# Altium footprint library ATK-MD0130_V2.0.PcbLib: 7 footprints
Each footprint in its own frame and in the unit in brackets; x right, y up, seen from the top. Pads: shape width x height; smd on the part's side, far side on the other; paste and mask are expansions set on the pad; w line width, h text height; cw(c..) or ccw(c..) is an arc to the next point about the centre after c.
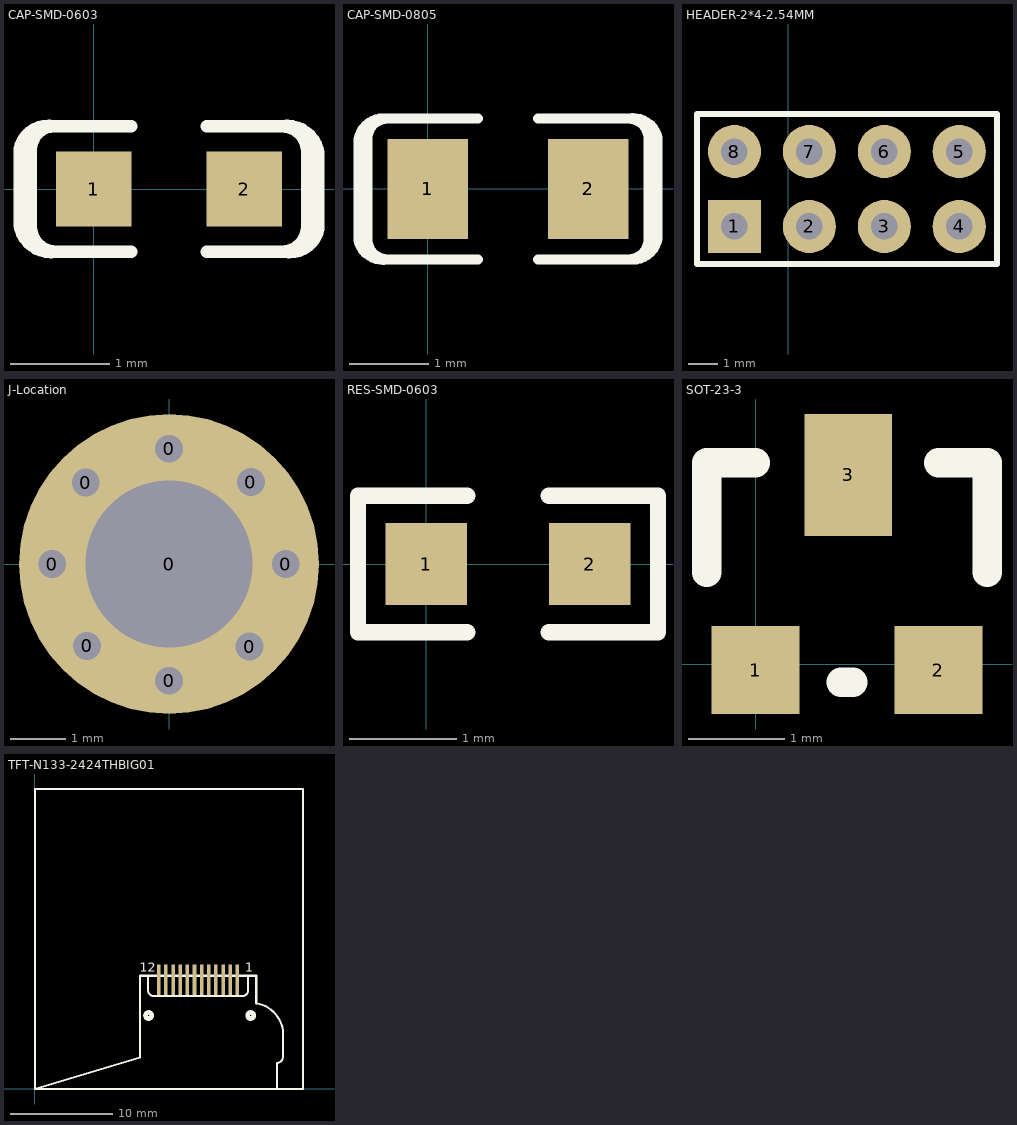
[diagram p0: the footprints below, top view; thin cyan lines are the x and y axes]

## CAP-SMD-0603 [mil]
pads (2):
  rect 30x30 smd: 1(0,0) 2(60,0)
Top Overlay:
  lines w5: -25,-15 ccw(c-15,-15) -15,-25 ; -25,-14.25 -25,15.75 cw(c-15.75,15.75) -15.75,25 ; 15,-25 -15,-25 ; 15,25 -15.75,25 ; 45,-25 75,-25 ccw(c75,-15) 85,-15 85,15 ccw(c75,15) 75,25 ; 45,25 75,25 ; 75.75,-25 ccw(c78.01,-13.48) 89.53,-15.75 89.53,14.25 ccw(c76.89,12.36) 75,25 ; -15.75,25 ccw(c-18.01,13.48) -29.53,15.75 -29.53,-14.25 ccw(c-16.89,-12.36) -15,-25

## CAP-SMD-0805 [mil]
pads (2):
  rect 40x50 smd: 1(0,0) 2(80,0)
Top Overlay:
  lines w5: 25,-35 -20,-35 ; 25,35 -20,35 ; 55,-35 100,-35 ; 55,35 100,35 ; -30,-25 ccw(c-20,-25) -20,-35 ; -30,-25 -30,25 ; -30,-25 -30,25 ; -30,25 cw(c-20,25) -20,35 ; -20,-35 cw(c-22.42,-22.97) -34.45,-25.39 -34.45,24.61 cw(c-22.03,22.58) -20,35 ; 100,-35 ccw(c102.03,-22.58) 114.45,-24.61 114.45,25.39 ccw(c102.42,22.97) 100,35 ; 100,-35 ccw(c100,-25) 110,-25 110,25 ccw(c100,25) 100,35

## HEADER-2*4-2.54MM [mm]
pads (8):
  rect 1.8x1.8 hole 0.9: 1(-1.825,-21.725)
  round 1.8 hole 0.9: 2(0.715,-21.725) 3(3.255,-21.725) 4(5.795,-21.725) 5(5.795,-19.185) 6(3.255,-19.185) 7(0.715,-19.185) 8(-1.825,-19.185)
Top Overlay:
  lines w0.2: -3.095,-22.995 -3.095,-20.455 -3.095,-17.915 7.075,-17.915 7.075,-22.995 -3.095,-22.995

## J-Location [mm]
pads (9):
  round 1 hole 0.5: 0(-2.1,0) 0(-1.5,1.465) 0(-1.475,-1.475) 0(0,-2.1) 0(0,2.075) 0(1.45,-1.485) 0(1.475,1.475) 0(2.1,0)
  round 5.4 hole 3: 0(0,0)

## RES-SMD-0603 [mil]
pads (2):
  rect 30x30 smd: 1(0,0) 2(60,0)
Top Overlay:
  lines w6: 15,-25 -25,-25 -25,25 15,25 ; 45,-25 85,-25 85,25 45,25

## SOT-23-3 [mil]
pads (3):
  rect 36x36 smd: 1(0,-2.5) 2(75,-2.5)
  rect 36x50 smd: 3(38,77.5)
Top Overlay:
  lines w12: -20,37.5 -20,82.5 0,82.5 ; 35,-7.5 40,-7.5 ; 75,82.5 95,82.5 95,37.5

## TFT-N133-2424THBIG01 [mm]
pads (12):
  rect 0.35x3 smd: 1(19.85,10.7) 2(19.15,10.7) 3(18.45,10.7) 4(17.75,10.7) 5(17.05,10.7) 6(16.35,10.7) 7(15.65,10.7) 8(14.95,10.7) 9(14.25,10.7) 10(13.55,10.7) 11(12.85,10.7) 12(12.15,10.7)
Top Overlay:
  circle w0.45: c21.15,7.2 r0.3
  circle w0.45: c11.15,7.2 r0.3
  lines w0.2: 11.1,11.1 11.1,9.677 ccw(c11.677,9.677) 11.677,9.1 20.323,9.1 ccw(c20.323,9.677) 20.9,9.677 20.9,11.1 ; 23.749,2.549 ccw(c23.736,3.113) 24.3,3.1 24.3,4.8 ccw(c21.2,5.3) 21.7,8.4 21.7,11.1 10.3,11.1 10.3,3.1 0,0 ; 23.75,0 23.75,2.549 ; 0,0 0,29.4 26.3,29.4 26.3,0 0,0
  text "1" at 20.625,11.5 h0.89
  text "12" at 10.3,11.5 h0.89